# Altium schematic symbol library MCP2562FD.SchLib: 1 symbol
Pins are listed as number, name and electrical type; pins without a type are passive.

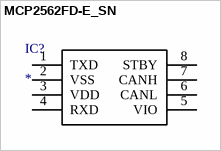
[diagram p0: symbol MCP2562FD-E_SN]

## MCP2562FD-E_SN
designator IC?
Integrated Circuit; Manufacturer_Name: Microchip; Manufacturer_Part_Number: MCP2562FD-E/SN; Description: 8Mbps CAN Flex. Data Transceiver SOIC8 Microchip MCP2562FD-E/SN; Allied_Number: 70431558; Datasheet Link: http://uk.rs-online.com/web/p/products/8243123; Height: 1.75mm; Mouser Part Number: 579-MCP2562FD-E/SN; Mouser Price/Stock: https://www.mouser.com/Search/Refine.aspx?Keyword=579-MCP2562FD-E%2FSN; RS Part Number: 8243123; RS Price/Stock: https://uk.rs-online.com/web/p/products/8243123; Allied Price/Stock: https://www.alliedelec.com/microchip-technology-inc-mcp2562fd-e-sn/70431558/
footprint SOIC127P600X175-8N
pins: 1 TXD, 2 VSS, 3 VDD, 4 RXD, 5 VIO, 6 CANL, 7 CANH, 8 STBY